# EAGLE library part MM1134A (library jrodrigo-gameboy)
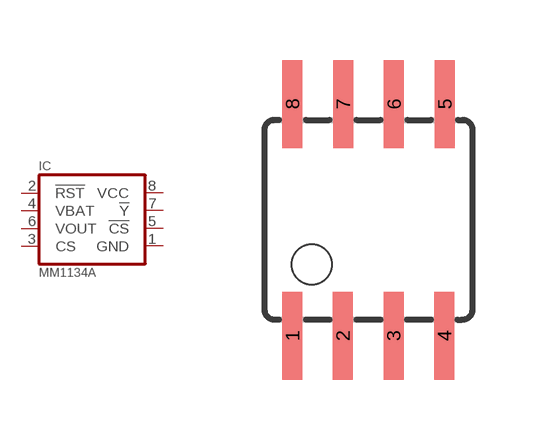
[diagram p3: symbol with the pads of SOP08; footprint SOP08]

Designator prefix IC

## MM1134A  [SOP08]
1  GND  pwr
2  !RST
3  CS
4  VBAT
5  !CS
6  VOUT
7  !Y
8  VCC  pwr

## Footprint SOP08 (pad centres in mm)
Small Outline Package
smd 0.5 x 2.2: 1 -1.905,-2.9; 2 -0.645,-2.9; 3 0.625,-2.9; 4 1.895,-2.9; 5 1.905,2.9; 6 0.635,2.9; 7 -0.635,2.9; 8 -1.905,2.9